# EAGLE library part TL072 (library _mtvl_ic)
OP AMP
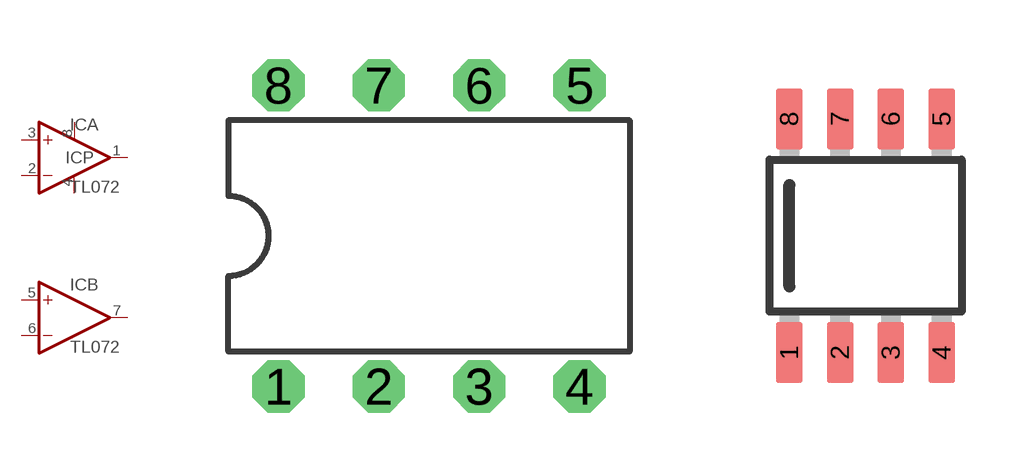
[diagram p9: symbol with the pads of DIP8; footprints DIP8, SO08]

Designator prefix IC; gates A=OPAMP B=OPAMP P=PWR+--1

## TL072P  [DIP8]
1  A:OUT  out
2  A:-IN  in
3  A:+IN  in
4  P:V-  pwr
5  B:+IN  in
6  B:-IN  in
7  B:OUT  out
8  P:V+  pwr

## TL072D  [SO08]
Pads as for DIP8

## TL072P_  [DIL08_]
Pads as for DIP8

## TL072MSOP  [MSOP08]
Pads as for DIP8

## Footprint DIP8 (pad centres in mm)
Dual In Line Package
drill 0.813 pad 1.27 octagon: 1 -3.81,-3.81; 2 -1.27,-3.81; 3 1.27,-3.81; 4 3.81,-3.81; 5 3.81,3.81; 6 1.27,3.81; 7 -1.27,3.81; 8 -3.81,3.81

## Footprint SO08 (pad centres in mm)
Small Outline Package 8
smd 0.66 x 1.524: 1 -1.905,-2.921; 2 -0.635,-2.921; 3 0.635,-2.921; 4 1.905,-2.921; 5 1.905,2.921; 6 0.635,2.921; 7 -0.635,2.921; 8 -1.905,2.921

## Footprint DIL08_ (pad centres in mm)
Dual In Line package type P
drill 0.8 square: 1 -3.81,-3.81
drill 0.8 octagon: 2 -1.27,-3.81; 3 1.27,-3.81; 4 3.81,-3.81; 5 3.81,3.81; 6 1.27,3.81; 7 -1.27,3.81; 8 -3.81,3.81

## Footprint MSOP08 (pad centres in mm)
Mini Small Outline Package
smd 0.3 x 1.2: 1 -0.976,-2.113; 2 -0.326,-2.113; 3 0.324,-2.113; 4 0.974,-2.113; 5 0.974,2.112; 6 0.324,2.112; 7 -0.326,2.112; 8 -0.976,2.112